# Altium schematic symbol library Led_Matrix.SchLib: 41 symbols
Pins are listed as number, name and electrical type; pins without a type are passive.

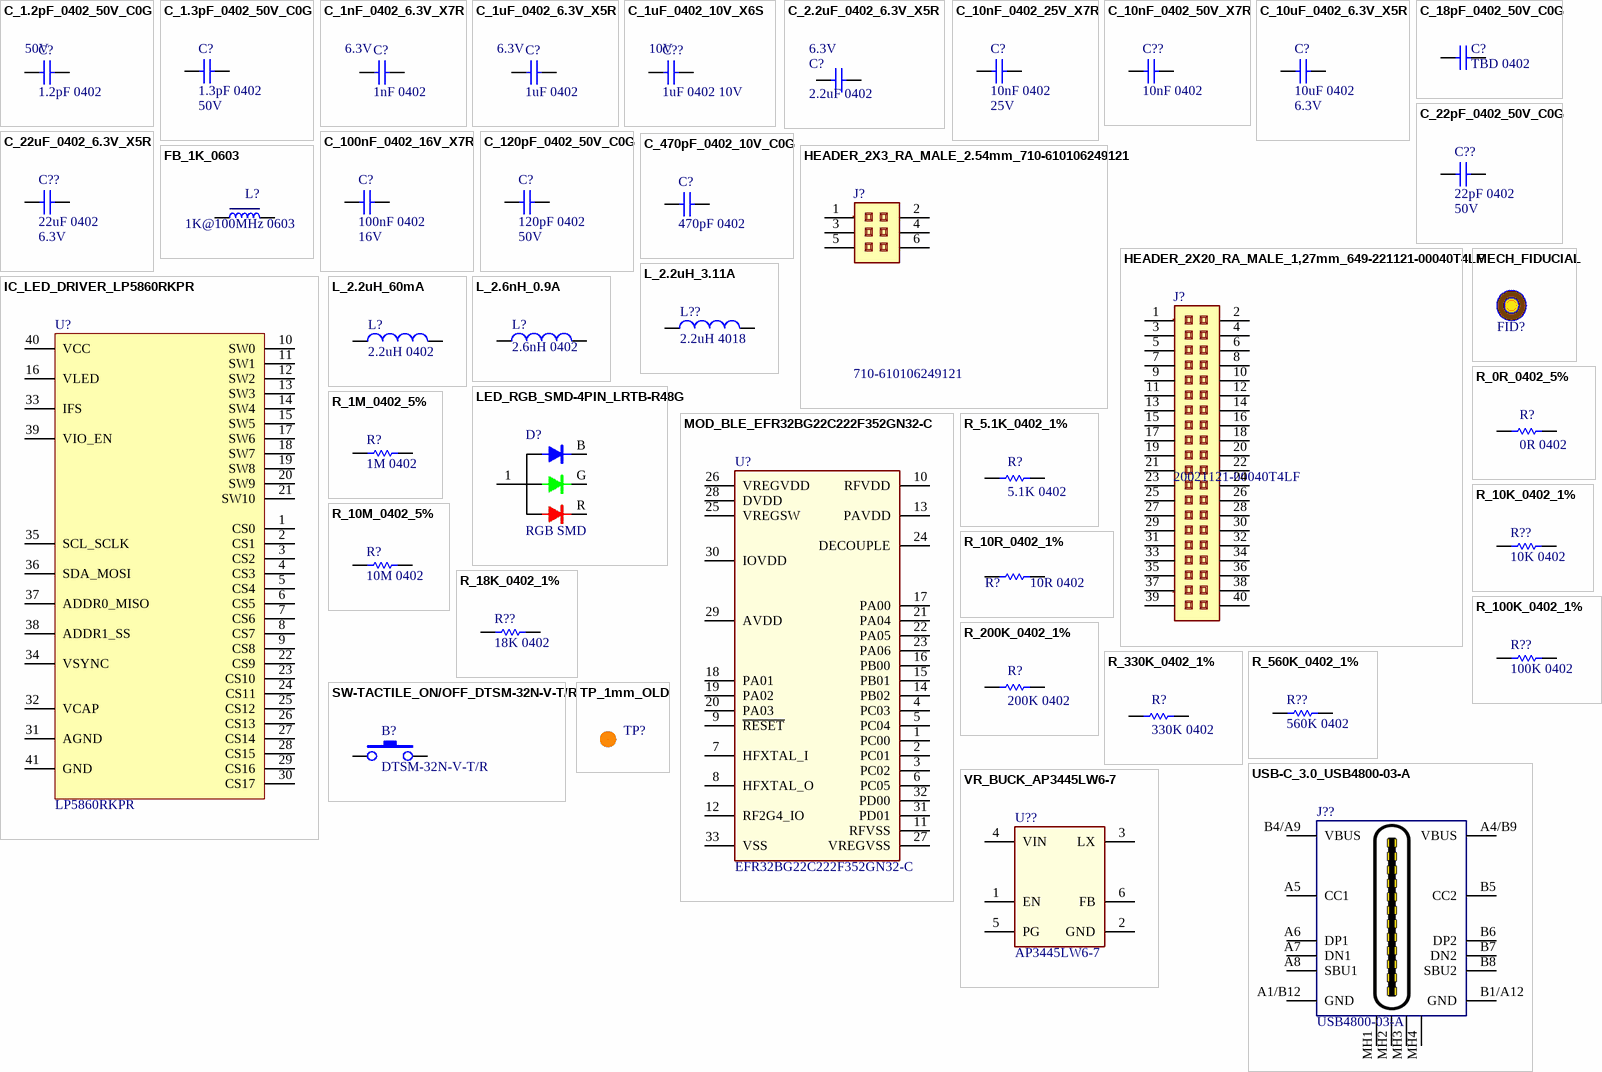
[diagram p0: symbols C_1.2pF_0402_50V_C0G to VR_BUCK_AP3445LW6-7]

## C_1.2pF_0402_50V_C0G
designator C?, comment 1.2pF 0402  Voltage: 50V
Surface Mount Ceramic Multilayer Capacitor 1.2pF, ± 0.25pF, C0G, 50V, 0402; Manufacturer: Murata; Manufacturer Part Number: GRM1555C1H1R2CA01D; Anfa_PN: ALC0102; Component loss: 20; Max Operating Temperature: 125°C; Min Operating Temperature: -55°C; Price: 0.07450; Supplier 1: TME; Supplier Part Number 1: GRM1555C1H1R2CA01D; Tolerance: 0.25pF; Value: 1.2pF 0402
footprint CAPC0402(1005)70 (Chip Capacitor, Body 1.0x0.5mm, Height 0.7mm, IPC High Density)
pins: 1, 2

## C_1.3pF_0402_50V_C0G
designator C?, comment 1.3pF 0402  Voltage: 50V
Surface Mount Ceramic Multilayer Capacitor 1.3pF, ± 0.25pF, C0G, 50V, 0402; Manufacturer: Murata; Manufacturer Part Number: GJM1555C1H1R3CB01D; Anfa_PN: ALC0103; Component loss: 20; Max Operating Temperature: 125°C; Min Operating Temperature: -55°C; Price: 0.0322; Supplier 1: TME; Supplier Part Number 1: GJM1555C1H1R3CB01D; Tolerance: 0.25pF; Value: 1.3pF 0402
footprint CAPC0402(1005)70 (Chip Capacitor, Body 1.0x0.5mm, Height 0.7mm, IPC High Density)
pins: 1, 2

## C_1nF_0402_6.3V_X7R
designator C?, comment 1nF 0402  Voltage: 6.3V
Surface Mount Ceramic Multilayer Capacitor 1nF, ± 10%, X7R, 6.3V, 0402; Manufacturer: Murata; Manufacturer Part Number: GRM155R70J102KA01D; Anfa_PN: QC0025; Component loss: 20; Min Operating Temperature: -55°C; Max Operating Temperature: 125°C; Tolerance: 10%; Price: 0.035; Value: 1nF 0402; Supplier 1: Mouser; Supplier Part Number 1: 81-GRM155R70J102KA1D
footprint CAPC0402(1005)70 (Chip Capacitor, Body 1.0x0.5mm, Height 0.7mm, IPC High Density)
pins: 1, 2

## C_1uF_0402_6.3V_X5R
designator C?, comment 1uF 0402  Voltage: 6.3V
Surface Mount Ceramic Multilayer Capacitor 1uF, ± 20%, X5R, 6.3V, 0402; Manufacturer: Murata; Manufacturer Part Number: GRM153R60J105ME15D; Anfa_PN: ALC0088; Component loss: 20; Min Operating Temperature: -55°C; Max Operating Temperature: 85°C; Tolerance: 20%; Supplier Part Number 1: 81-GRM153R60J105ME1D; Supplier 1: Mouser; Price: 0.042; Value: 1uF 0402
footprint CAPC0402(1005)70 (Chip Capacitor, Body 1.0x0.5mm, Height 0.7mm, IPC High Density)
pins: 1, 2

## C_1uF_0402_10V_X6S
designator C??, comment 1uF 0402 10V  Voltage: 10V
Multilayer Ceramic Capacitors (High dielectric type), 10V, 1 uF, ± 20 %, 0402, X6S, RoHS; Manufacturer: Taiyo Yuden; Manufacturer Part Number: LMK105C6105MV-F; Tolerance: 20%; Anfa_PN: ALC0047; Component loss: 20; Supplier 1: Mouser; Min Operating Temperature: -55°C; Max Operating Temperature: 105°C; Supplier Part Number 1: 963-LMK105C6105MV-F; Footprint: 0402; Price: 0.021; Value: 1uF 0402 10V
footprint CAPC0402(1005)33 (Chip Capacitor, Body 1.0x0.5mm, Height 0.33mm, IPC High Density)
pins: 1, 2

## C_2.2uF_0402_6.3V_X5R
designator C?, comment 2.2uF 0402  Voltage: 6.3V
Surface Mount Ceramic Multilayer Capacitor 2.2uF, ± 10%, X5R, 6.3V, 0402; Manufacturer: Murata; Manufacturer Part Number: GRM155R60J225KE01D; Anfa_PN: ALC0084; Component loss: 20; Supplier 1: Mouser; Supplier Part Number 1: 81-GRM155R60J225K01D; Max Operating Temperature: 85°C; Min Operating Temperature: -55°C; Price: 0.038; Tolerance: 10%; Value: 2.2uF 0402
footprint CAPC0402(1005)70 (Footprint not found)
pins: 1, 2

## C_10nF_0402_25V_X7R
designator C?, comment 10nF 0402  Voltage: 25V
Surface Mount Ceramic Multilayer Capacitor 10nF, ± 10%, X7R, 25V, 0402; Manufacturer: Murata; Manufacturer Part Number: GRM155R71E103KA01D; Anfa_PN: ALC0075; Component loss: 20; Min Operating Temperature: -55°C; Max Operating Temperature: 125°C; Tolerance: 10%; Supplier Part Number 1: 81-GRM36X103K25; Supplier 1: Mouser; Price: 0.008; Value: 10nF 0402
footprint CAPC0402(1005)70 (Chip Capacitor, Body 1.0x0.5mm, Height 0.7mm, IPC High Density)
pins: 1, 2

## C_10nF_0402_50V_X7R
designator C??, comment 10nF 0402
Cap Ceramic 0.01uF 50V X7R 10% SMD 0402 125C Paper T/R; Manufacturer: Vishay Vitramon; Manufacturer Part Number: VJ0402Y103KXACW1BC; Anfa_PN: ALC0046; Component loss: 20; Supplier 1: Mouser; Min Operating Temperature: -55°C; Max Operating Temperature: 125°C; Tolerance: 10%; Supplier Part Number 1: 77-VJ0402Y103KXACWBC; Footprint: 0402; Price: 0.033; Value: 10nF 0402; Voltage: 50V
footprint CAPC0402(1005)33 (Chip Capacitor, Body 1.0x0.5mm, Height 0.33mm, IPC High Density)
pins: 1, 2

## C_10uF_0402_6.3V_X5R
designator C?, comment 10uF 0402  Voltage: 6.3V
Surface Mount Ceramic Multilayer Capacitor 10uF, ± 20 %, X5R, 6.3V, 0402; Manufacturer: Murata; Manufacturer Part Number: GRM155R60J106ME15D; Tolerance: 20%; Anfa_PN: ALC0071; Alternate Anfa_PN: ALC0065; Component loss: 20; Min Operating Temperature: -55°C; Max Operating Temperature: 85°C; Supplier 1: Mouser; Supplier Part Number 1: 81-GRM155R60J106ME5D; Price: 0.067; Value: 10uF 0402
footprint CAPC0402(1005)70 (Chip Capacitor, Body 1.0x0.5mm, Height 0.7mm, IPC High Density)
pins: 1, 2

## C_18pF_0402_50V_C0G
designator C?, comment TBD 0402
Surface Mount Ceramic Multilayer Capacitor 18pF, ± 5%, C0G, 50V, 0402; Manufacturer: Vishay; Manufacturer Part Number: VJ0402A180JXACW1BC; Anfa_PN: ALC0064; Component loss: 20; Max Operating Temperature: 125°C; Min Operating Temperature: -55°C; Price: 0.03; Supplier 1: Mouser; Supplier Part Number 1: 77-VJ0402A180JXACBC; Tolerance: 5%; Value: TBD 0402; Voltage: 50V
footprint CAPC0402(1005)70 (Chip Capacitor, Body 1.0x0.5mm, Height 0.7mm, IPC High Density)
pins: 1, 2

## C_22pF_0402_50V_C0G
designator C??, comment 22pF 0402  Voltage: 50V
Surface Mount Ceramic Multilayer Capacitor 22pF, ± 5%, C0G, 50V, 0402; Manufacturer: Kyocera AVX; Manufacturer Part Number: 04025A220JAT2A; Anfa_PN: QC0005; Component loss: 20; Max Operating Temperature: 125°C; Min Operating Temperature: -55°C; Price: 0.0162; Supplier 1: TME; Supplier Part Number 1: 04025A220JAT2A; Tolerance: 5%; Value: 22pF 0402
footprint CAPC0402(1005)70 (Chip Capacitor, Body 1.0x0.5mm, Height 0.7mm, IPC High Density)
pins: 1, 2

## C_22uF_0402_6.3V_X5R
designator C??, comment 22uF 0402  Voltage: 6.3V
Multilayer Ceramic Capacitors MLCC - SMD/SMT 6.3V 22uF X5R 0402 20%; Manufacturer: KYOCERA AVX; Manufacturer Part Number: 04026D226MAT2A; Anfa_PN: QC0026; Component loss: 20; Max Operating Temperature: 85°C; Min Operating Temperature: -55°C; Price: 0.14; Tolerance: 20%; Value: 22uF 0402; Supplier 1: Mouser; Supplier Part Number 1: 581-04026D226MAT2A
footprint CAPC0402(1005)70 (Chip Capacitor, Body 1.0x0.5mm, Height 0.7mm, IPC High Density)
pins: 1, 2

## C_100nF_0402_16V_X7R
designator C?, comment 100nF 0402  Voltage: 16V
Surface Mount Ceramic Multilayer Capacitor 100nF, ± 10%, X7R, 16V, 0402; Manufacturer: Murata; Manufacturer Part Number: GCM155R71C104KA55D; Anfa_PN: ALC0069; Component loss: 20; Min Operating Temperature: -55°C; Max Operating Temperature: 125°C; Tolerance: 10%; Supplier Part Number 1: 81-GCM155R71C104KA5D; Supplier 1: Mouser; Price: 0.017; Value: 100nF 0402
footprint CAPC0402(1005)70 (Chip Capacitor, Body 1.0x0.5mm, Height 0.7mm, IPC High Density)
pins: 1, 2

## C_120pF_0402_50V_C0G
designator C?, comment 120pF 0402  Voltage: 50V
Surface Mount Ceramic Multilayer Capacitor 120pF, ± 5%, C0G, 50V, 0402; Manufacturer: Samsung; Manufacturer Part Number: CL05C121JB51PNC; Anfa_PN: ALC0101; Component loss: 20; Supplier 1: TME; Min Operating Temperature: -55°C; Max Operating Temperature: 125°C; Tolerance: 5%; Supplier Part Number 1: CL05C121JB51PNC; Price: 0.0744; Value: 120pF 0402
footprint CAPC0402(1005)60 (Chip Capacitor, Body 1.0x0.5mm, Height 0.6mm, IPC High Density)
pins: 1, 2

## C_470pF_0402_10V_C0G
designator C?, comment 470pF 0402
Multilayer Ceramic Capacitors MLCC - SMD/SMT 0402 470pF 10V C0G 10%; Manufacturer: Vishay; Manufacturer Part Number: VJ0402A471KXQPW1BC; Anfa_PN: QC0027; Component loss: 20; Min Operating Temperature: -55°C; Max Operating Temperature: 125°C; Tolerance: 10%; Footprint: 0402; Price: 0.12; Value: 470pF 0402; Supplier 1: Mouser; Supplier Part Number 1: 77-VJ0402A471KXQPBC; Voltage: 10V
footprint CAPC0402(1005)33 (Chip Capacitor, Body 1.0x0.5mm, Height 0.33mm, IPC High Density)
pins: 1, 2

## FB_1K_0603
designator L?, comment 1K@100MHz 0603
Ferrite Bead, 1KOhm at 100MHz, 0.45A, 500 mOhm DCR, 0603; Manufacturer: Murata; Manufacturer Part Number: BLM18AG102SN1D; Anfa_PN: ALI0053; Impedance: 1kOhms @ 100 MHz; Supplier 1: Mouser; Min Operating Temperature: -55°C; Max Operating Temperature: 125°C; Supplier Part Number 1: 81-BLM11A102S; Price: 0.102; Value: 1K@100MHz 0603; Maximum DC Current: 0.45 A; Maximum DC Res: 500 mOhm
footprint FB0603_IPC
pins: 1, 2

## HEADER_2X3_RA_MALE_2.54mm_710-610106249121
designator J?, comment 710-610106249121
Headers & Wire Housings WR-PHD 2.54mm Hdr 6P Dual RA Gold; Manufacturer: Wurth Elektronik; Anfa_PN: QCN0026; Component loss: 1; Current Rating: 3 A; No. of pins: 6; Manufacturer Part Number: 610106249121; Max Operating Temperature: 105°C; Min Operating Temperature: -40 °C; Pitch: 2.54mm; Price: 1.64; Value: 710-610106249121; Supplier 1: Mouser; Supplier Part Number 1: 710-610106249121
footprint HDR_2X3_2.54mm_MALE
pins: 1, 2, 3, 4, 5, 6

## HEADER_2X20_RA_MALE_1,27mm_649-221121-00040T4LF
designator J?, comment 20021121-00040T4LF
Headers & Wire Housings 1.27mm BTB, Hdr, SMT Unshrd, 40 P, Tub; Manufacturer: Amphenol FCI; Anfa_PN: QCN0027; Component loss: 1; Current Rating: 1 A; No. of pins: 40; Manufacturer Part Number: 20021121-00040T4LF; Max Operating Temperature: 125°C; Min Operating Temperature: -55 °C; Pitch: 1.27mm; Price: 3.13; Value: 20021121-00040T4LF; Supplier 1: Mouser; Supplier Part Number 1: 649-221121-00040T4LF
footprint 20021121-00040T4LF
pins: 1, 2, 3, 4, 5, 6, 7, 8, 9, 10, 11, 12, 13, 14, 15, 16, 17, 18, 19, 20, 21, 22, 23, 24, 25, 26, 27, 28, 29, 30, 31, 32, 33, 34, 35, 36, 37, 38, 39, 40

## IC_LED_DRIVER_LP5860RKPR
designator U?, comment LP5860RKPR
11 × 18 LED matrix driver with 8-bit analog and 8-/16-bit PWM dimming 40-VQFN -40 to 85; Manufacturer: Texas Instruments; Anfa_PN: QIC0023; Min Input Voltage: 2.7V; Max Input Voltage: 5.5V; Component loss: 1; No. of pins: 40; Manufacturer Part Number: LP5860RKPR; Min Operating Temperature: -40 °C; Max Operating Temperature: 85 °C; Price: 3.06; Value: LP5860RKPR; Supplier 1: Mouser; Supplier Part Number 1: 595-LP5860RKPR
footprint VQFN-40
pins: 1 CS0, 2 CS1, 3 CS2, 4 CS3, 5 CS4, 6 CS5, 7 CS6, 8 CS7, 9 CS8, 10 SW0, 11 SW1, 12 SW2, 13 SW3, 14 SW4, 15 SW5, 16 VLED, 17 SW6, 18 SW7, 19 SW8, 20 SW9, 21 SW10, 22 CS9, 23 CS10, 24 CS11, 25 CS12, 26 CS13, 27 CS14, 28 CS15, 29 CS16, 30 CS17, 31 AGND, 32 VCAP, 33 IFS, 34 VSYNC, 35 SCL_SCLK, 36 SDA_MOSI, 37 ADDR0_MISO, 38 ADDR1_SS, 39 VIO_EN, 40 VCC, 41 GND

## L_2.2uH_3.11A
designator L??, comment 2.2uH 4018
Inductor Power Shielded Wirewound, 2.2uH, 20%, Saturation Current 3.11A, 50.4 mOhms DCR, SMD4018; Manufacturer: Taiyo Yuden; Manufacturer Part Number: NRS4018T2R2MDGJV; Anfa_PN: ALI0034; Component loss: 10; Min Operating Temperature: -25°C; Max Operating Temperature: 125°C; Tolerance: 20%; Supplier 1: Mouser; Supplier Part Number 1: 963-NRS4018T2R2MDGJV; Price: 0.443; Value: 2.2uH 4018; Maximum DC Res: 50.4 mOhms; Saturation Current: 3.11 A
footprint SMD4018
pins: 1, 2

## L_2.2uH_60mA
designator L?, comment 2.2uH 0402
2.2 µH Shielded Multilayer Inductor 350 mA 550mOhm 0402 (1005 Metric); Manufacturer: TDK; Manufacturer Part Number: MLZ1005M2R2WT000; Tolerance: 20%; Anfa_PN: ALI0055; Maximum DC Res: 550 mOhms; Saturation Current: 60 mA; Component loss: 20; Min Operating Temperature: -25°C; Max Operating Temperature: 125°C; Supplier 1: Mouser; Supplier Part Number 1: 810-MLZ1005M2R2WT000; Price: 0.251; Value: 2.2uH 0402
footprint FB0402_IPC
pins: 1, 2

## L_2.6nH_0.9A
designator L?, comment 2.6nH 0402
RF Inductors - SMD Fixed IND 2.6nH 900mA INFOTMT; Manufacturer: Murata; Manufacturer Part Number: LQG15WZ2N6C02D; Anfa_PN: ALI0054; Maximum DC Res: 70 mOhm; Maximum DC Current: 0.9 A; Component loss: 10; Min Operating Temperature: -55°C; Max Operating Temperature: 125°C; Supplier 1: Mouser; Supplier Part Number 1: 81-LQG15WZ2N6C02D; Price: 0.09; Value: 2.6nH 0402
footprint FB0402_IPC
pins: 1, 2

## LED_RGB_SMD-4PIN_LRTB-R48G
designator D?, comment RGB SMD
LED Tri-Color Blue/Green/Red, 4-Pin Chip, 125 mcd, 2.7V, 10mA; Manufacturer: Osram Opto; Manufacturer Part Number: LRTB R48G; Anfa_PN: QL0002; Component loss: 10; Max Luminosity: 125 mcd; LED Current: 10 mA; Max Operating Temperature: 85 °C; Min Operating Temperature: -30 °C; Price: 0.12; Supplier 1: Mouser; Supplier Part Number 1: 720-LRTBR48G; Value: RGB SMD; Voltage: 2.7 V
footprint LRTB_R48G
pins: 1, B, G, R

## MECH_FIDUCIAL
designator FID?  (no BOM)
Fiducial with various available footprints
footprint FID1

## MOD_BLE_EFR32BG22C222F352GN32-C
designator U?, comment EFR32BG22C222F352GN32-C
RF System on a Chip - SoC Blue Gecko, TQFN32, 2.4G, 6dB, Bluetooth 5.2, 352kB, 32kB(RAM), 18 GPIO; Manufacturer: Silicon Labs; Anfa_PN: QMOD0005; No. of pins: 40; Max Supply Voltage: 3.8V; Min Supply Voltage: 1.71V; Component loss: 1; Supplier Part Number 1: 634-ER32BG22352GN32C; Supplier 1: Mouser; Manufacturer Part Number: EFR32BG22C222F352GN32-C; Max Operating Temperature: 85°C; Min Operating Temperature: -40°C; Price: 3.85; Value: EFR32BG22C222F352GN32-C
footprint TQFN-32
pins: 1 PC00, 2 PC01, 3 PC02, 4 PC03, 5 PC04, 6 PC05, 7 HFXTAL_I, 8 HFXTAL_O, 9 ~{RESET}, 10 RFVDD, 11 RFVSS, 12 RF2G4_IO, 13 PAVDD, 14 PB02, 15 PB01, 16 PB00, 17 PA00, 18 PA01, 19 PA02, 20 PA03, 21 PA04, 22 PA05, 23 PA06, 24 DECOUPLE, 25 VREGSW, 26 VREGVDD, 27 VREGVSS, 28 DVDD, 29 AVDD, 30 IOVDD, 31 PD01, 32 PD00, 33 VSS

## R_0R_0402_5%
designator R?, comment 0R 0402
Resistor: thick film; SMD; 0402; 0R; 63mW; ±5%; -55÷155°C; Manufacturer: Royal Electronic Factory; Manufacturer Part Number: 0402WGJ0000TCE; Anfa_PN: ALR0135; Component loss: 20; Supplier 1: TME; Supplier Part Number 1: 0402WGJ0000TCE; Max Operating Temperature: 155°C; Min Operating Temperature: -55°C; Power: 63 mW; Price: 0.011; Tolerance: 5%; Value: 0R 0402
footprint RESC0402(1005) (Chip Resistor, Body 1.0x0.5mm, IPC High Density)
pins: 1, 2

## R_1M_0402_5%
designator R?, comment 1M 0402
Resistor: thick film; SMD; 0402; 1MΩ; 63mW; ±5%; -55÷155°C; Manufacturer: ROYAL OHM; Manufacturer Part Number: 0402WGJ0105TCE; Anfa_PN: ALR0128; Component loss: 20; Supplier 1: TME; Supplier Part Number 1: SMD0402-1M; Max Operating Temperature: 155°C; Min Operating Temperature: -55°C; Power: 63 mW; Price: 0.011; Tolerance: 5%; Value: 1M 0402
footprint RESC0402(1005) (Chip Resistor, Body 1.0x0.5mm, IPC High Density)
pins: 1, 2

## R_5.1K_0402_1%
designator R?, comment 5.1K 0402
Resistor: thick film; SMD; 0402; 5.1KΩ; 63mW; ±1%; -55÷155°C; Manufacturer: Vishay; Manufacturer Part Number: CRCW04025K10FKTDBC; Anfa_PN: ALR0099; Component loss: 20; Tolerance: 1%; Supplier 1: TME; Supplier Part Number 1: CRCW04025K10FKTDBC; Max Operating Temperature: 155°C; Min Operating Temperature: -55°C; Power: 63 mW; Price: 0.01226; Value: 5.1K 0402
footprint RESC0402(1005) (Chip Resistor, Body 1.0x0.5mm, IPC High Density)
pins: 1, 2

## R_10K_0402_1%
designator R??, comment 10K 0402
Resistor: thick film; SMD; 0402; 10KΩ; 63mW; ±1%; -55÷155°C; Manufacturer: Vishay; Manufacturer Part Number: CRCW040210K0FKTDBC; Anfa_PN: ALR0134; Component loss: 20; Supplier 1: TME; Tolerance: 1%; Supplier Part Number 1: CRCW040210K0FKTDBC; Max Operating Temperature: 155°C; Min Operating Temperature: -55°C; Power: 63 mW; Price: 0.0085; Value: 10K 0402
footprint RESC0402(1005) (Chip Resistor, Body 1.0x0.5mm, IPC High Density)
pins: 1, 2

## R_10M_0402_5%
designator R?, comment 10M 0402
Resistor: thick film; SMD; 0402; 10MΩ; 63mW; ±5%; -55÷155°C; Manufacturer: ROYAL OHM; Manufacturer Part Number: 0402WGJ0106TCE; Anfa_PN: ALR0176; Component loss: 20; Supplier 1: TME; Supplier Part Number 1: 0402WGJ0106TCE; Max Operating Temperature: 155°C; Min Operating Temperature: -55°C; Power: 63 mW; Price: 0.0454; Tolerance: 5%; Value: 10M 0402
footprint RESC0402(1005) (Chip Resistor, Body 1.0x0.5mm, IPC High Density)
pins: 1, 2

## R_10R_0402_1%
designator R?, comment 10R 0402
Resistor: thick film; SMD; 0402; 10Ω; 63mW; ±1%; -55÷155°C; Manufacturer: Royal Electronic Factory; Manufacturer Part Number: 0402WGF100JTCE; Anfa_PN: ALR0137; Component loss: 20; Supplier 1: TME; Supplier Part Number 1: SMD0402-10R-1%; Max Operating Temperature: 155°C; Min Operating Temperature: -55°C; Power: 63 mW; Price: 0.0095; Tolerance: 1%; Value: 10R 0402
footprint RESC0402(1005) (Chip Resistor, Body 1.0x0.5mm, IPC High Density)
pins: 1, 2

## R_18K_0402_1%
designator R??, comment 18K 0402
Thick Film Resistors - SMD 1/16watt 18Kohms 1%; Manufacturer: Vishay; Manufacturer Part Number: CRCW040218K0FKTDBC; Anfa_PN: ALR0114; Power: 62.5 mW; Component loss: 20; Max Operating Temperature: 155°C; Min Operating Temperature: -55°C; Price: 0.14; Tolerance: 1%; Value: 18K 0402; Supplier 1: Mouser; Supplier Part Number 1: 71-CRCW0402-18K
footprint RESC0402(1005) (Chip Resistor, Body 1.0x0.5mm, IPC High Density)
pins: 1, 2

## R_100K_0402_1%
designator R??, comment 100K 0402
Resistor: thick film; SMD; 0402; 100KΩ; 63mW; ±1%; -55÷155°C; Manufacturer: Yageo; Manufacturer Part Number: RC0402FR-07100KL; Anfa_PN: ALR0133; Component loss: 20; Min Operating Temperature: -55°C; Max Operating Temperature: 155°C; Tolerance: 1%; Supplier 1: TME; Supplier Part Number 1: RC0402FR-07100K; Power: 63 mW; Price: 0.0091; Value: 100K 0402
footprint RESC0402(1005) (Chip Resistor, Body 1.0x0.5mm, IPC High Density)
pins: 1, 2

## R_200K_0402_1%
designator R?, comment 200K 0402
Resistor: thick film; SMD; 0402; 200KΩ; 63mW; ±1%; -55÷155°C; Manufacturer: ROYAL OHM; Manufacturer Part Number: 0402WGF2003TCE; Anfa_PN: ALR0120; Component loss: 20; Min Operating Temperature: -55°C; Max Operating Temperature: 155°C; Tolerance: 1%; Supplier 1: TME; Supplier Part Number 1: SMD0402-200K-1%; Power: 63 mW; Price: 0.011; Value: 200K 0402
footprint RESC0402(1005) (Chip Resistor, Body 1.0x0.5mm, IPC High Density)
pins: 1, 2

## R_330K_0402_1%
designator R?, comment 330K 0402
Resistor: thick film; SMD; 0402; 330K; 63mW; ±1%; -55÷155°C; Manufacturer: ROYAL OHM; Manufacturer Part Number: 0402WGF3303TCE; Anfa_PN: ALR0111; Component loss: 20; Supplier 1: TME; Supplier Part Number 1: SMD0402-330K-1%; Max Operating Temperature: 155°C; Min Operating Temperature: -55°C; Power: 63 mW; Price: 0.01030; Tolerance: 1%; Value: 330K 0402
footprint RESC0402(1005) (Chip Resistor, Body 1.0x0.5mm, IPC High Density)
pins: 1, 2

## R_560K_0402_1%
designator R??, comment 560K 0402
Rezistor: thick film; SMD; 0402; 560kΩ; 63mW; ±1%; -55÷155°C; Manufacturer: ROYAL OHM; Manufacturer Part Number: 0402WGJ0564TCE; Anfa_PN: ALR0151; Component loss: 20; Supplier 1: TME; Min Operating Temperature: -55°C; Max Operating Temperature: 155°C; Tolerance: 1%; Power: 63 mW; Price: 0.00925; Supplier Part Number 1: SMD0402-560K; Value: 560K 0402
footprint RESC0402(1005) (Chip Resistor, Body 1.0x0.5mm, IPC High Density)
pins: 1, 2

## SW-TACTILE_ON/OFF_DTSM-32N-V-T/R
designator B?, comment DTSM-32N-V-T/R
SWITCH TACTILE SMT 3.5mm * 6mm , brown 160gf; Manufacturer: Diptronics; Anfa_PN: QSW0008; No. of pins: 2; Current Rating: 50mA; Component loss: 6; Supplier 1: Mouser; Min Operating Temperature: -20°C; Max Operating Temperature: 70°C; Supplier Part Number 1: 113-DTSM32NVTR; Manufacturer Part Number: DTSM-32N-V-T/R; Price: 0.44; Value: DTSM-32N-V-T/R
footprint DTSM-32N-V (tactile button 160gf)
pins: 1, 2

## TP_1mm_OLD
designator TP?  (no BOM)
Test Point 1mm
footprint TP_SMD
pins: 1, 1

## USB-C_3.0_USB4800-03-A
designator J??, comment USB4800-03-A
USB Connectors USB2.0 Type C Rcpt, SMT, Hrz, 3.5mm elevated, 16 Pin; Manufacturer: GCT; Anfa_PN: QCN0028; No. of pins: 16; Pitch: 0.5mm; Component loss: 1; Manufacturer Part Number: USB4800-03-A; Min Operating Temperature: -25°C; Max Operating Temperature: 85°C; Price: 1.73; Value: USB4800-03-A; Alternate Anfa_PN: -; Supplier 1: Mouser; Supplier Part Number 1: 640-USB4800-03-A
footprint USB4800-03-A
pins: A1/B12 GND, A4/B9 VBUS (power), A5 CC1, A6 DP1, A7 DN1, A8 SBU1, B1/A12 GND, B4/A9 VBUS (power), B5 CC2, B6 DP2, B7 DN2, B8 SBU2, MH1, MH2, MH3, MH4

## VR_BUCK_AP3445LW6-7
designator U??, comment AP3445LW6-7
Buck Switching Regulator IC Positive Adjustable 0.6V 1 Output 2A SOT-23-6; Manufacturer: Diodes Incorporated; Anfa_PN: ALV0041; Max Input Voltage: 5.5V; Min Input Voltage: 2.7V; Component loss: 10; Supplier 1: Mouser; Manufacturer Part Number: AP3445LW6-7; Supplier Part Number 1: 621-AP3445LW6-7; Value: AP3445LW6-7; Max Operating Temperature: 85°C; Max Output Current: 2A; Max Output Voltage: 5.5V; Min Operating Temperature: -40°C; Min Output Voltage: 0.6V; Price: 0.47
footprint SOT23-6
pins: 1 EN, 2 GND, 3 LX, 4 VIN, 5 PG, 6 FB

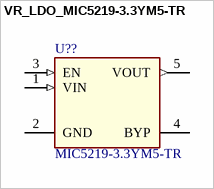
[diagram p1: symbol VR_LDO_MIC5219-3.3YM5-TR]

## VR_LDO_MIC5219-3.3YM5-TR
designator U??, comment MIC5219-3.3YM5-TR
LDO Voltage Regulators, Adjustable Output Voltage, Output Current 500mA, SOT-23-5; Manufacturer: Microchip Technology; Anfa_PN: QV0009; Max Input Voltage: 12 V; Max Output Voltage: 17V; Min Input Voltage: 2.7V; Min Output Voltage: 1.2V; Component loss: 6; Manufacturer Part Number: MIC5219-3.3YM5-TR; Max Operating Temperature: 125°C; Max Output Current: 500mA; Min Operating Temperature: -40°C; Price: 0.695; Value: MIC5219-3.3YM5-TR; Supplier 1: Mouser; Supplier Part Number 1: 998-MIC5219-3.3YM5TR
footprint SOT23-5
pins: 1 VIN (in), 2 GND, 3 EN (in), 4 BYP, 5 VOUT (out)